# Altium footprint library LQFP0.50P9.0X9.0X1.4-32¦.PcbLib: 3 footprints
Each footprint in its own frame and in the unit in brackets; x right, y up, seen from the top. Pads: shape width x height; smd on the part's side, far side on the other; paste and mask are expansions set on the pad; w line width, h text height; cw(c..) or ccw(c..) is an arc to the next point about the centre after c.
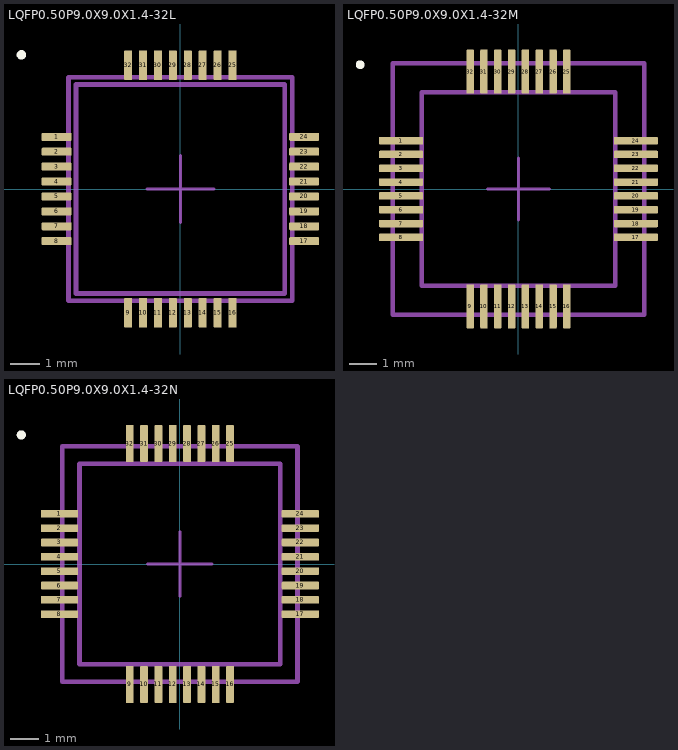
[diagram p0: the footprints below, top view; thin cyan lines are the x and y axes]

## LQFP0.50P9.0X9.0X1.4-32L [mm] "LQFP 32 7x7x1.4 mm"
height 1.4
pads (32):
  rrect25% 1x0.27 smd: 1(-4.15,1.75) 2(-4.15,1.25) 3(-4.15,0.75) 4(-4.15,0.25) 5(-4.15,-0.25) 6(-4.15,-0.75) 7(-4.15,-1.25) 8(-4.15,-1.75) 17(4.15,-1.75) 18(4.15,-1.25) 19(4.15,-0.75) 20(4.15,-0.25) 21(4.15,0.25) 22(4.15,0.75) 23(4.15,1.25) 24(4.15,1.75)
  rrect25% 0.27x1 smd: 9(-1.75,-4.15) 10(-1.25,-4.15) 11(-0.75,-4.15) 12(-0.25,-4.15) 13(0.25,-4.15) 14(0.75,-4.15) 15(1.25,-4.15) 16(1.75,-4.15) 25(1.75,4.15) 26(1.25,4.15) 27(0.75,4.15) 28(0.25,4.15) 29(-0.25,4.15) 30(-0.75,4.15) 31(-1.25,4.15) 32(-1.75,4.15)
Top Overlay:
  circle w0.16: c-5.33,4.5 r0.08
Top Component Center:
  lines w0.1: -1.125,0 1.125,0 ; 0,-1.125 0,1.125
Top Courtyard:
  lines w0.16: -3.75,-3.75 3.75,-3.75 3.75,3.75 -3.75,3.75 -3.75,-3.75
Top Assembly:
  lines w0.16: -3.5,-3.5 3.5,-3.5 3.5,3.5 -3.5,3.5 -3.5,-3.5
3D body "LQFP0.50P9.0X9.0X1.4-32L.STEP": height 1, standoff 0

## LQFP0.50P9.0X9.0X1.4-32M [mm] "LQFP 32 7x7x1.4 mm"
height 1.4
pads (32):
  rrect25% 1.6x0.27 smd: 1(-4.25,1.75) 2(-4.25,1.25) 3(-4.25,0.75) 4(-4.25,0.25) 5(-4.25,-0.25) 6(-4.25,-0.75) 7(-4.25,-1.25) 8(-4.25,-1.75) 17(4.25,-1.75) 18(4.25,-1.25) 19(4.25,-0.75) 20(4.25,-0.25) 21(4.25,0.25) 22(4.25,0.75) 23(4.25,1.25) 24(4.25,1.75)
  rrect25% 0.27x1.6 smd: 9(-1.75,-4.25) 10(-1.25,-4.25) 11(-0.75,-4.25) 12(-0.25,-4.25) 13(0.25,-4.25) 14(0.75,-4.25) 15(1.25,-4.25) 16(1.75,-4.25) 25(1.75,4.25) 26(1.25,4.25) 27(0.75,4.25) 28(0.25,4.25) 29(-0.25,4.25) 30(-0.75,4.25) 31(-1.25,4.25) 32(-1.75,4.25)
Top Overlay:
  circle w0.16: c-5.73,4.5 r0.08
Top Component Center:
  lines w0.1: -1.125,0 1.125,0 ; 0,-1.125 0,1.125
Top Courtyard:
  lines w0.16: -4.55,-4.55 4.55,-4.55 4.55,4.55 -4.55,4.55 -4.55,-4.55
Top Assembly:
  lines w0.16: -3.5,-3.5 3.5,-3.5 3.5,3.5 -3.5,3.5 -3.5,-3.5
3D body "LQFP0.50P9.0X9.0X1.4-32M.STEP": height 1, standoff 0

## LQFP0.50P9.0X9.0X1.4-32N [mm] "LQFP 32 7x7x1.4 mm"
height 1.4
pads (32):
  rrect25% 1.3x0.27 smd: 1(-4.2,1.75) 2(-4.2,1.25) 3(-4.2,0.75) 4(-4.2,0.25) 5(-4.2,-0.25) 6(-4.2,-0.75) 7(-4.2,-1.25) 8(-4.2,-1.75) 17(4.2,-1.75) 18(4.2,-1.25) 19(4.2,-0.75) 20(4.2,-0.25) 21(4.2,0.25) 22(4.2,0.75) 23(4.2,1.25) 24(4.2,1.75)
  rrect25% 0.27x1.3 smd: 9(-1.75,-4.2) 10(-1.25,-4.2) 11(-0.75,-4.2) 12(-0.25,-4.2) 13(0.25,-4.2) 14(0.75,-4.2) 15(1.25,-4.2) 16(1.75,-4.2) 25(1.75,4.2) 26(1.25,4.2) 27(0.75,4.2) 28(0.25,4.2) 29(-0.25,4.2) 30(-0.75,4.2) 31(-1.25,4.2) 32(-1.75,4.2)
Top Overlay:
  circle w0.16: c-5.53,4.5 r0.08
Top Component Center:
  lines w0.1: -1.125,0 1.125,0 ; 0,-1.125 0,1.125
Top Courtyard:
  lines w0.16: -4.1,-4.1 4.1,-4.1 4.1,4.1 -4.1,4.1 -4.1,-4.1
Top Assembly:
  lines w0.16: -3.5,-3.5 3.5,-3.5 3.5,3.5 -3.5,3.5 -3.5,-3.5
3D body "LQFP0.50P9.0X9.0X1.4-32N.STEP": height 1, standoff 0